# Altium schematic symbol library Other.SchLib: 2 symbols
Pins are listed as number, name and electrical type; pins without a type are passive.

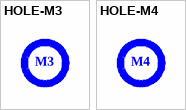
[diagram p0: symbols HOLE-M3 to HOLE-M4]

## HOLE-M3
designator ?
footprint HOLE-M3-OCTAGONAL
footprint HOLE-M3-ROUND
text: M3

## HOLE-M4
designator ?
footprint HOLE-M4-OCTAGONAL
footprint HOLE-M4-ROUND
text: M4